# EAGLE library part LTC1992* (library linear-technology-3)
Low Power, Fully Differential Input/Output Amplifier/Driver
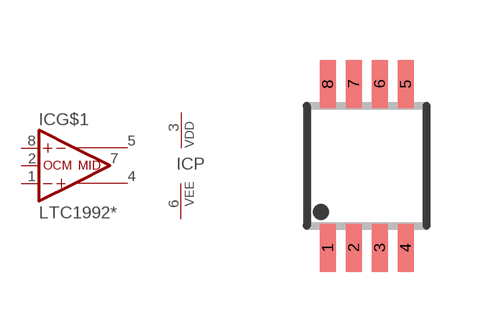
[diagram p39: symbol with the pads of MSOP8; footprint MSOP8]

Designator prefix IC; gates G$1=LTC1992 P=PWRN-D-E

## LTC1992CMS8, LTC1992HMS8, LTC1992IMS8  [MSOP8]
1  G$1:-IN  in
2  G$1:OCM  in
3  P:VDD  pwr
4  G$1:+OUT  out
5  G$1:-OUT  out
6  P:VEE  pwr
7  G$1:MID  pas
8  G$1:+IN  in

## Footprint MSOP8 (pad centres in mm)
MSOP8
smd 0.4 x 1.2: 1 -0.975,-2.05; 2 -0.325,-2.05; 3 0.325,-2.05; 4 0.975,-2.05; 5 0.975,2.05; 6 0.325,2.05; 7 -0.325,2.05; 8 -0.975,2.05